# EAGLE library part MOLEX54722-0304 (library KW2)
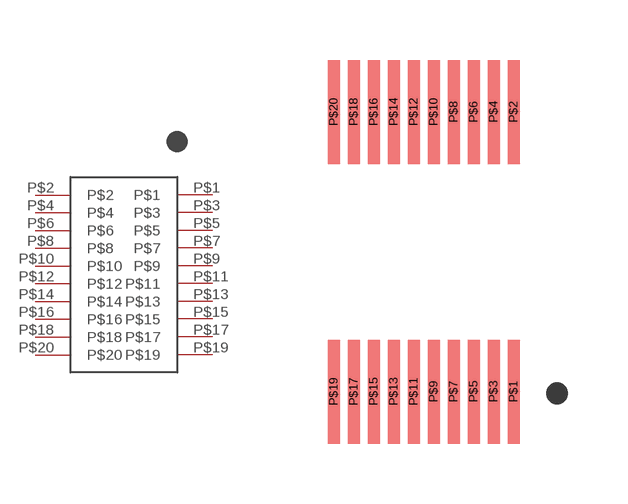
[diagram p7: symbol with the pads of MOLEX054722-0304; footprint MOLEX054722-0304]

Designator prefix -

## MOLEX54722-0304  [MOLEX054722-0304]
P$1  P$1
P$2  P$2
P$3  P$3
P$4  P$4
P$5  P$5
P$6  P$6
P$7  P$7
P$8  P$8
P$9  P$9
P$10  P$10
P$11  P$11
P$12  P$12
P$13  P$13
P$14  P$14
P$15  P$15
P$16  P$16
P$17  P$17
P$18  P$18
P$19  P$19
P$20  P$20

## Footprint MOLEX054722-0304 (pad centres in mm)
smd 0.3 x 2.6: P$1 2.25,-3.5; P$2 2.25,3.5; P$3 1.75,-3.5; P$4 1.75,3.5; P$5 1.25,-3.5; P$6 1.25,3.5; P$7 0.75,-3.5; P$8 0.75,3.5; P$9 0.25,-3.5; P$10 0.25,3.5; P$11 -0.25,-3.5; P$12 -0.25,3.5; P$13 -0.75,-3.5; P$14 -0.75,3.5; P$15 -1.25,-3.5; P$16 -1.25,3.5; P$17 -1.75,-3.5; P$18 -1.75,3.5; P$19 -2.25,-3.5; P$20 -2.25,3.5